# EAGLE library part MICRO-USB (library BiomedicalImagingLibrary)
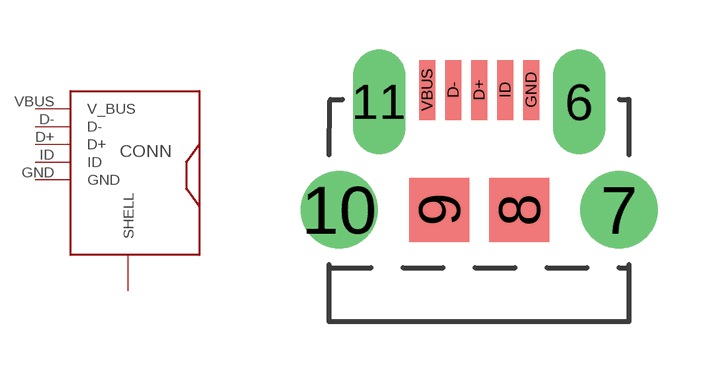
[diagram p6: symbol with the pads of USB-MICRO-B_THROUGH_HOLE; footprint USB-MICRO-B_THROUGH_HOLE]

Designator prefix CONN

## MICRO-USB  [USB-MICRO-B_THROUGH_HOLE]
6  SHELL  pas
7  SHELL  pas
8  SHELL  pas
9  SHELL  pas
10  SHELL  pas
11  SHELL  pas
D+  D+  pas
D-  D-  pas
GND  GND  pas
ID  ID  pas
VBUS  V_BUS  pas

## Footprint USB-MICRO-B_THROUGH_HOLE (pad centres in mm)
drill 0.8 pad 1.27 long: 6 2.5,2.7; 11 -2.5,2.7
drill 1.1 pad 1.93: 7 3.5,0; 10 -3.5,0
smd 1.5 x 1.6: 8 1,0; 9 -1,0
smd 0.4 x 1.5: D+ 0,3; D- -0.65,3; GND 1.3,3; ID 0.65,3; VBUS -1.3,3